# Altium footprint library Connectors.PcbLib: 34 footprints (part 3 of 3)
Each footprint in its own frame and in the unit in brackets; x right, y up, seen from the top. Pads: shape width x height; smd on the part's side, far side on the other; paste and mask are expansions set on the pad; w line width, h text height; cw(c..) or ccw(c..) is an arc to the next point about the centre after c.
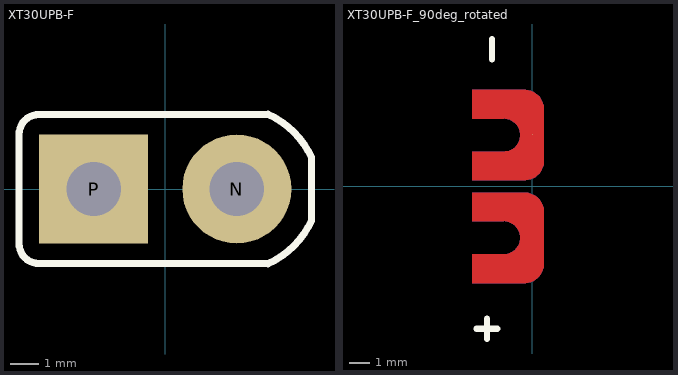
[diagram p2: the footprints below, top view; thin cyan lines are the x and y axes]

## XT30UPB-F [mm] "Female"
height 10.7
pads (2):
  round 3.8 hole 1.9 mask+0.102: N(2.5,0)
  rect 3.8x3.8 hole 1.9 mask+0.102: P(-2.5,0)
Top Overlay:
  lines w0.25: 3.586,-2.606 ccw(c2.366,0.134) 5.106,-1.086 ; 3.586,2.606 cw(c2.366,-0.134) 5.106,1.086 ; 3.6,-2.6 -4.4,-2.6 cw(c-4.4,-1.9) -5.1,-1.9 -5.1,1.9 cw(c-4.4,1.9) -4.4,2.6 3.6,2.6 ; 5.1,-1.1 5.1,1.1
Mechanical 13:
  lines w0.127: 3.586,-2.606 ccw(c2.366,0.134) 5.106,-1.086 ; 3.586,2.606 cw(c2.366,-0.134) 5.106,1.086 ; 3.6,-2.6 -4.4,-2.6 cw(c-4.4,-1.9) -5.1,-1.9 -5.1,1.9 cw(c-4.4,1.9) -4.4,2.6 3.6,2.6 ; 5.1,-1.1 5.1,1.1
3D body "XT30UPB-F.step": height 9.4, standoff -2, extent -5.1,-2.6 5.1,2.6

## XT30UPB-F_90deg_rotated [mil] "Rotated 90deg; /  / Socket; DC supply; XT30; female; PIN: 2; on PCBs; THT; Colour: yellow"
height 421.26
pads (2):
  round 1 all layers, no hole: N(0,99.41) P(0,-97.44)
Top Layer:
  region: -115.16,-185.04 -115.16,-129.92 -54.13,-129.92 -51.66,-129.82 -46.78,-129.05 -42.08,-127.52 -37.68,-125.28 -33.68,-122.38 -30.18,-118.88 -27.28,-114.88 -25.04,-110.48 -23.51,-105.78 -22.73,-100.9 -22.73,-95.95 -23.51,-91.07 -25.04,-86.37 -27.28,-81.97 -30.18,-77.97 -33.68,-74.48 -37.68,-71.57 -42.08,-69.33 -46.78,-67.8 -51.66,-67.03 -54.13,-66.93 -115.16,-66.93 -115.16,-11.81 -14.76,-11.81 -12.31,-11.81 -7.44,-12.45 -2.7,-13.72 1.84,-15.6 6.09,-18.06 9.98,-21.05 13.46,-24.52 16.44,-28.41 18.9,-32.66 20.78,-37.2 22.05,-41.94 22.69,-46.81 22.69,-49.26 22.69,-147.59 22.69,-150.04 22.05,-154.91 20.78,-159.65 18.9,-164.19 16.44,-168.44 13.46,-172.33 9.98,-175.81 6.09,-178.79 1.84,-181.25 -2.7,-183.13 -7.44,-184.4 -12.31,-185.04 -14.76,-185.04
  region: -115.16,11.81 -115.16,66.93 -54.13,66.93 -51.66,67.03 -46.78,67.8 -42.08,69.33 -37.68,71.57 -33.68,74.48 -30.18,77.97 -27.28,81.97 -25.04,86.37 -23.51,91.07 -22.73,95.95 -22.73,100.9 -23.51,105.78 -25.04,110.48 -27.28,114.88 -30.18,118.88 -33.68,122.38 -37.68,125.28 -42.08,127.52 -46.78,129.05 -51.66,129.82 -54.13,129.92 -115.16,129.92 -115.16,185.04 -14.76,185.04 -12.31,185.04 -7.44,184.4 -2.7,183.13 1.84,181.25 6.09,178.79 9.98,175.81 13.46,172.33 16.44,168.44 18.9,164.19 20.78,159.65 22.05,154.91 22.69,150.04 22.69,147.59 22.69,49.26 22.69,46.81 22.05,41.94 20.78,37.2 18.9,32.66 16.44,28.41 13.46,24.52 9.98,21.05 6.09,18.06 1.84,15.6 -2.7,13.72 -7.44,12.45 -12.31,11.81 -14.76,11.81
Bottom Layer:
  region: -115.16,-185.04 -115.16,-129.92 -54.13,-129.92 -51.66,-129.82 -46.78,-129.05 -42.08,-127.52 -37.68,-125.28 -33.68,-122.38 -30.18,-118.88 -27.28,-114.88 -25.04,-110.48 -23.51,-105.78 -22.73,-100.9 -22.73,-95.95 -23.51,-91.07 -25.04,-86.37 -27.28,-81.97 -30.18,-77.97 -33.68,-74.48 -37.68,-71.57 -42.08,-69.33 -46.78,-67.8 -51.66,-67.03 -54.13,-66.93 -115.16,-66.93 -115.16,-11.81 -14.76,-11.81 -12.31,-11.81 -7.44,-12.45 -2.7,-13.72 1.84,-15.6 6.09,-18.06 9.98,-21.05 13.46,-24.52 16.44,-28.41 18.9,-32.66 20.78,-37.2 22.05,-41.94 22.69,-46.81 22.69,-49.26 22.69,-147.59 22.69,-150.04 22.05,-154.91 20.78,-159.65 18.9,-164.19 16.44,-168.44 13.46,-172.33 9.98,-175.81 6.09,-178.79 1.84,-181.25 -2.7,-183.13 -7.44,-184.4 -12.31,-185.04 -14.76,-185.04
  region: -115.16,11.81 -115.16,66.93 -54.13,66.93 -51.66,67.03 -46.78,67.8 -42.08,69.33 -37.68,71.57 -33.68,74.48 -30.18,77.97 -27.28,81.97 -25.04,86.37 -23.51,91.07 -22.73,95.95 -22.73,100.9 -23.51,105.78 -25.04,110.48 -27.28,114.88 -30.18,118.88 -33.68,122.38 -37.68,125.28 -42.08,127.52 -46.78,129.05 -51.66,129.82 -54.13,129.92 -115.16,129.92 -115.16,185.04 -14.76,185.04 -12.31,185.04 -7.44,184.4 -2.7,183.13 1.84,181.25 6.09,178.79 9.98,175.81 13.46,172.33 16.44,168.44 18.9,164.19 20.78,159.65 22.05,154.91 22.69,150.04 22.69,147.59 22.69,49.26 22.69,46.81 22.05,41.94 20.78,37.2 18.9,32.66 16.44,28.41 13.46,24.52 9.98,21.05 6.09,18.06 1.84,15.6 -2.7,13.72 -7.44,12.45 -12.31,11.81 -14.76,11.81
Top Overlay:
  lines w11.81: -106.3,-272.64 -66.93,-272.64 ; -86.61,-292.32 -86.61,-252.95 ; -76.77,243.11 -76.77,282.48
3D body "XT30UPB-F.stp": height 100.66, standoff -120.34, extent -486.22,-200.79 -37.58,200.79